# Altium schematic symbol library TVS_ESDA6V1W5.Schlib: 1 symbol
Pins are listed as number, name and electrical type; pins without a type are passive.

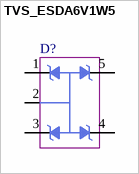
[diagram p0: symbol TVS_ESDA6V1W5]

## TVS_ESDA6V1W5
designator D?  (value not drawn)
pins: 1, 2, 3, 4, 5